# Altium footprint library opto-honeywell.PCBLIB: 39 footprints (part 1 of 3)
Each footprint in its own frame and in the unit in brackets; x right, y up, seen from the top. Pads: shape width x height; smd on the part's side, far side on the other; paste and mask are expansions set on the pad; w line width, h text height; cw(c..) or ccw(c..) is an arc to the next point about the centre after c.
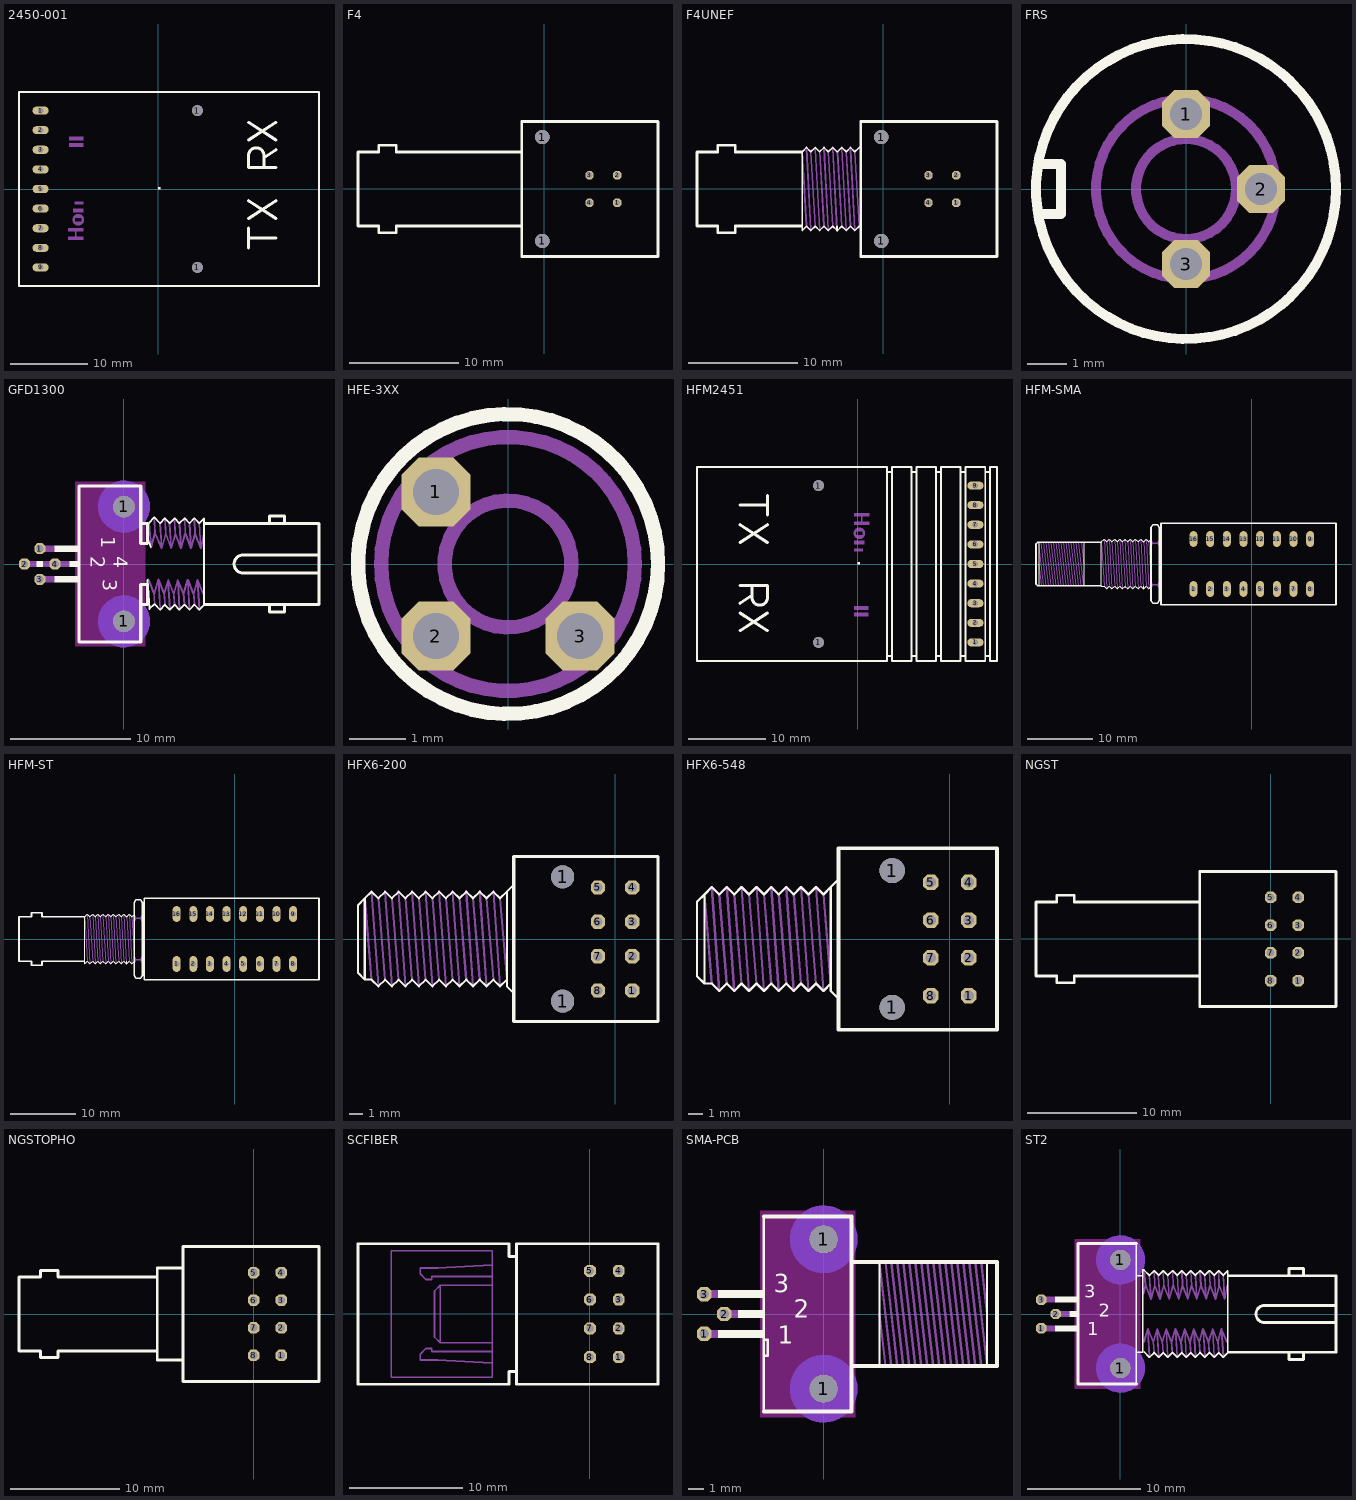
[diagram p0: the footprints below, top view; thin cyan lines are the x and y axes]

## 2450-001 [mil]
pads (11):
  oval 82.68x41.34 hole 27.56: 1(-600,400) 2(-600,300) 3(-600,200) 4(-600,100) 5(-600,0) 6(-600,-100) 7(-600,-200) 8(-600,-300) 9(-600,-400)
  round 56 hole 56: 1(200,-400) 1(200,400)
Top Overlay:
  region: 0,0 10,0 10,10 0,10
  region: 0,0 10,0 10,10 0,10
  lines w10: -710,-495 820,-495 820,495 -710,495 -710,-495
  lines w16: 460,-300 460,-250 ; 460,-200 460,-250 ; 460,-150 600,-60 ; 460,-60 600,-150 ; 460,250 600,340 ; 460,340 600,250 ; 600,-250 460,-250 ; 600,110 540,110 ; 600,200 540,160 ; 540,110 460,110 460,170 cw(c500,170) 540,170 540,160 ; 540,110 540,160
Mechanical 16:
  circle w12: c-407.87,-156.69 r23.62
  rectangle: -459.06,-261.02 -380.31,-241.34
  rectangle: -423.62,-245.28 -415.75,-213.78
  rectangle: -459.06,-217.72 -380.31,-198.03
  rectangle: -425.59,-176.38 -390.16,-166.54
  rectangle: -425.59,-146.85 -390.16,-137.01
  rectangle: -435.43,-119.29 -380.31,-99.61
  rectangle: -427.56,-79.92 -380.31,-64.17
  rectangle: -455.12,215.35 -380.31,235.04
  rectangle: -455.12,246.85 -380.31,266.54
  region: 0,0 10,0 10,10 0,10
  region: 0,0 10,0 10,10 0,10
  region: 0,0 10,0 10,10 0,10
  region: 0,0 10,0 10,10 0,10
  region: 0,0 10,0 10,10 0,10
  region: 0,0 10,0 10,10 0,10
  region: 0,0 10,0 10,10 0,10

## F4 [mil]
pads (6):
  round 52 hole 52: 1(-6,-187.5) 1(-6,187.5)
  oct 30x30 hole 20: 1(264,-50) 2(264,50) 3(164,50) 4(164,-50)
Top Overlay:
  lines w10: -80.91,-133.86 -80.91,-244.09 411.22,-244.09 411.22,244.09 -80.91,244.09 -80.91,133.86 ; -80.91,-133.86 -533.66,-133.86 -533.66,-157.48 -596.65,-157.48 -596.65,-133.86 -671.46,-133.86 -671.46,133.86 -596.65,133.86 -596.65,157.48 -533.66,157.48 -533.66,133.86 -80.91,133.86 ; -80.91,-133.86 -80.91,133.86

## F4UNEF [mil]
pads (6):
  round 52 hole 52: 1(-6,-187.5) 1(-6,187.5)
  oct 30x30 hole 20: 1(264,-50) 2(264,50) 3(164,50) 4(164,-50)
Top Overlay:
  lines w6: -292.09,131.14 -292.09,-149.61 -276.34,-133.86 -260.59,-149.61 -244.8,-133.86 -229.06,-149.61 -213.35,-133.86 -197.6,-149.61 -181.85,-133.86 -166.06,-149.61 -166.06,-133.86 ; -292.09,133.86 -276.34,149.61 -260.59,133.86 -244.8,149.61 -229.06,133.86 -213.35,149.61 -197.6,133.86 -181.85,149.61 -166.06,133.86 ; -164.57,-149.61 -148.82,-133.86 -133.07,-149.61 -117.32,-133.86 -101.57,-149.61 -85.83,-133.86 ; -164.57,133.86 -148.82,149.61 -133.07,133.86 -117.32,149.61 -101.57,133.86 -85.83,149.61
  lines w10: -295,-133.86 -533.66,-133.86 -533.66,-157.48 -596.65,-157.48 -596.65,-133.86 -671.46,-133.86 -671.46,133.86 -596.65,133.86 -596.65,157.48 -533.66,157.48 -533.66,133.86 -295,133.86 ; -80.91,-244.09 411.22,-244.09 411.22,244.09 -80.91,244.09 -80.91,-244.09
Mechanical 16:
  lines w6: -292.09,133.86 -276.34,-133.86 ; -276.34,149.61 -260.59,-149.61 ; -260.59,133.86 -244.8,-133.86 ; -244.8,144.21 -229.06,-149.61 ; -229.06,133.86 -213.35,-133.86 ; -213.35,149.61 -197.6,-149.61 ; -197.6,133.86 -181.85,-133.86 ; -181.85,149.61 -166.06,-149.61 ; -164.57,133.86 -148.82,-133.86 ; -148.82,149.61 -133.07,-149.61 ; -133.07,133.86 -117.32,-133.86 ; -117.32,144.21 -101.57,-149.61 ; -101.57,133.86 -85.83,-133.86

## FRS [mil]
pads (3):
  oct 48x48 hole 32: 1(0,75) 2(75,0) 3(0,-75)
Top Overlay:
  circle w10: c0,0 r150
  lines w10: -145,-25 -125,-25 -125,25 -145,25
Mechanical 16:
  circle w10: c0,0 r50
  circle w10: c0,0 r90

## GFD1300 [mil]
pads (6):
  oct 36x36 hole 24: 1(-275,50) 2(-325,0) 3(-275,-50) 4(-225,0)
  round 70 hole 70: 1(0,-187.5) 1(0,187.5)
Top Layer keep-out:
  rectangle: -160,-270 70,270
Bottom Layer keep-out:
  circle w50: c0,187.5 r60
  circle w50: c0,-187.5 r60
Top Overlay:
  rectangle: -227.5,40 -152.5,60
  rectangle: -177.5,-10 -152.5,10
  rectangle: -227.5,-60 -152.5,-40
  rectangle: -285,-10 -265,10
  lines w6: 77.09,82.6 87.83,54.84 ; 77.5,-67.5 77.5,-51.5 83.5,-146.5 ; 80.83,133.86 99.06,152.13 ; 83.35,-147.13 99.06,-131.38 ; 99.06,152.6 117.83,133.86 ; 100.08,-131.85 117.83,-149.61 ; 118.35,-149.61 134.06,-133.86 149.8,-149.61 165.59,-133.86 181.34,-149.61 197.09,-133.86 ; 118.35,133.86 134.06,149.61 149.8,133.86 165.59,149.61 181.34,133.86 198.07,149.61 ; 198.58,-133.86 214.33,-149.61 230.08,-133.86 ; 198.58,149.61 214.33,133.86 230.08,149.61 ; 230.59,-133.86 246.34,-149.61 262.09,-133.86 ; 230.59,149.61 246.34,133.86 262.09,149.61 262.09,-131.14
  lines w10: 60,-132.5 77.5,-132.5 77.5,-67.5 55,-67.5 55,-255 -147.5,-255 -147.5,255 55,255 55,67.5 77.5,67.5 77.5,132.5 60,132.5 ; 265,-132.5 637.5,-132.5 637.5,-30 ; 265,132.5 637.5,132.5 637.5,30 ; 475,-135 475,-157.5 525,-157.5 525,-135 ; 475,135 475,157.5 525,157.5 525,135 ; 637.5,-30 637.5,30 ; 637.5,-30 390,-30 cw(c390,0) 390,30 637.5,30
  text "1" at -90,90 h77.5
  text "3" at -85,-50 h77.5
  text "2" at -125,25 h77.5
  text "4" at -50,25 h77.5
Mechanical 16:
  rectangle: -280,40 -225,60
  rectangle: -330,-10 -175,10
  rectangle: -280,-60 -225,-40
  lines w6: 80.08,-50.91 98.31,-96.65 ; 82.5,134 88.5,54 ; 88.35,53.86 101.57,101.61 ; 97.5,-92.5 100.5,-131.5 ; 99.06,152.6 102,100 ; 99.33,-96.65 112.56,-50.91 130.83,-96.65 ; 102.09,100.12 122.83,52.36 ; 112.5,-54 118.5,-149 ; 117.5,134 123.5,54 ; 123.35,51.38 136.57,99.09 154.8,51.38 168.07,99.09 186.34,51.38 199.57,99.09 ; 131.34,-97.64 144.57,-51.89 162.83,-97.64 176.06,-51.89 194.33,-97.64 207.56,-51.89 ; 131.5,-96 134.5,-134 ; 134.5,149 136.5,98 ; 144.5,-56 150.5,-148 ; 148.5,133 154.5,53 ; 162.5,-95 165.5,-134 ; 165.5,148 167.5,97 ; 176.5,-55 181.5,-149 ; 181.5,134 186.5,53 ; 194.5,-95 197.5,-134 ; 198.5,149 200.5,97 ; 201.06,99.09 219.33,51.38 232.6,99.09 ; 208.5,-54 214.5,-148 ; 209.09,-51.89 227.32,-97.64 ; 214.5,134 219.5,53 ; 227.83,-97.64 240.08,-51.89 259.33,-97.64 ; 228,-95 231,-134 ; 231,148 232,96 ; 232.09,99.09 251.34,51.38 260.59,99.09 ; 240,-54 247,-149 ; 246,134 251,54
Via Holes:
  rectangle: -160,-270 70,270

## HFE-3XX [mil]
pads (3):
  oct 48x48 hole 32: 1(-50,50) 2(-50,-50) 3(50,-50)
Top Overlay:
  circle w10: c0,0 r104.02
Mechanical 16:
  circle w10: c0,0 r88
  circle w10: c0,0 r44

## HFM2451 [mil]
pads (11):
  round 56 hole 56: 1(-200,-400) 1(-200,400)
  oval 82.68x41.34 hole 27.56: 1(600,-400) 2(600,-300) 3(600,-200) 4(600,-100) 5(600,0) 6(600,100) 7(600,200) 8(600,300) 9(600,400)
Top Overlay:
  region: 0,0 10,0 10,10 0,10
  region: 0,0 10,0 10,10 0,10
  lines w10: 150,-470 150,470 ; 150,-470 150,-495 -820,-495 -820,495 150,495 150,470 ; 150,-470 175,-470 ; 150,470 175,470 ; 175,-470 175,-495 275,-495 275,-470 ; 175,-470 175,470 ; 175,470 175,495 275,495 275,470 ; 275,-470 275,470 ; 275,-470 300,-470 ; 275,470 300,470 ; 300,-470 300,-495 400,-495 400,-470 ; 300,-470 300,470 ; 300,470 300,495 400,495 400,470 ; 400,-470 400,470 ; 400,-470 425,-470 ; 400,470 425,470 ; 425,-470 425,-495 525,-495 525,-470 ; 425,-470 425,470 ; 425,470 425,495 525,495 525,470 ; 525,-470 525,470 ; 525,-470 550,-470 ; 525,470 550,470 ; 550,-470 550,-495 650,-495 650,-470 ; 550,-470 550,470 ; 550,470 550,495 650,495 650,470 ; 650,-470 650,470 ; 650,-470 675,-470 ; 650,470 675,470 ; 675,-470 675,-495 710,-495 710,495 675,495 675,470 ; 675,-470 675,470
  lines w16: -600,-340 -460,-250 ; -600,-250 -460,-340 ; -600,-200 -540,-160 ; -600,-110 -540,-110 ; -600,110 -460,200 ; -600,200 -460,110 ; -600,300 -460,300 ; -460,250 -460,300 ; -460,350 -460,300 ; -540,-160 -540,-170 ccw(c-500,-170) -460,-170 -460,-110 -540,-110 ; -540,-160 -540,-110
Mechanical 16:
  circle w12: c7.87,156.69 r23.63
  rectangle: -19.69,241.34 59.06,261.02
  rectangle: 15.75,213.78 23.62,245.28
  rectangle: -19.69,198.03 59.06,217.72
  rectangle: -9.84,166.54 25.59,176.38
  rectangle: -9.84,137.01 25.59,146.85
  rectangle: -19.69,99.61 35.43,119.29
  rectangle: -19.69,64.17 27.56,79.92
  rectangle: -19.69,-235.04 55.12,-215.35
  rectangle: -19.69,-266.54 55.12,-246.85
  region: 0,0 10,0 10,10 0,10
  region: 0,0 10,0 10,10 0,10
  region: 0,0 10,0 10,10 0,10
  region: 0,0 10,0 10,10 0,10
  region: 0,0 10,0 10,10 0,10
  region: 0,0 10,0 10,10 0,10
  region: 0,0 10,0 10,10 0,10

## HFM-SMA [mil]
pads (16):
  oval 48x96 hole 32: 1(-350,-150) 2(-250,-150) 3(-150,-150) 4(-50,-150) 5(50,-150) 6(150,-150) 7(250,-150) 8(350,-150) 9(350,150) 10(250,150) 11(150,150) 12(50,150) 13(-50,150) 14(-150,150) 15(-250,150) 16(-350,150)
Top Overlay:
  lines w6: -1280,-125 -1280,125 ; -1010,-130 -1010,125 ; -902.09,131.14 -902.09,-134.61 -886.34,-133.86 -870.59,-149.61 -854.8,-133.86 -839.06,-149.61 -823.35,-133.86 ; -902.09,133.86 -886.34,149.61 -870.59,133.86 -854.8,149.61 -839.06,133.86 ; -839.57,133.86 -823.82,149.61 -808.07,133.86 -792.32,149.61 -776.57,133.86 -760.83,149.61 ; -823.82,-133.86 -808.07,-149.61 -792.32,-133.86 -776.57,-149.61 -760.83,-133.86 ; -761.34,-133.86 -745.59,-149.61 -729.8,-133.86 -714.06,-149.61 -698.35,-133.86 -682.6,-149.61 -666.85,-133.86 -651.06,-149.61 -651.06,-133.86 ; -761.34,149.61 -745.59,133.86 -729.8,149.61 -714.06,133.86 -698.35,149.61 -682.6,133.86 -666.85,149.61 -651.06,133.86 ; -649.57,-149.61 -633.82,-133.86 -618.07,-149.61 -602.32,-133.86 ; -649.57,133.86 -633.82,149.61 -618.07,133.86 -602.32,149.61
  lines w10: -905,-130 -1285,-130 -1295,-120 -1295,120 -1285,130 -905,130 ; -605,-220 -595,-235 -565,-235 -555,-220 -555,220 -565,235 -595,235 -605,220 -605,-220 ; -545,-245 505,-245 505,245 -545,245 -545,-245
Mechanical 16:
  lines w6: -1280,0 -1265,-130 ; -1280,130 -1250,-130 ; -1265,130 -1235,-130 ; -1250,130 -1220,-130 ; -1235,130 -1205,-130 ; -1220,130 -1190,-130 ; -1205,130 -1175,-130 ; -1190,130 -1160,-130 ; -1175,130 -1145,-130 ; -1160,130 -1130,-130 ; -1145,130 -1115,-130 ; -1130,130 -1100,-130 ; -1115,130 -1085,-130 ; -1100,130 -1070,-130 ; -1085,130 -1055,-130 ; -1070,130 -1040,-130 ; -1055,130 -1025,-130 ; -1040,130 -1010,-130 ; -1025,130 -1010,0 ; -902.09,133.86 -886.34,-133.86 ; -886.34,149.61 -870.59,-149.61 ; -870.59,133.86 -854.8,-133.86 ; -854.8,144.21 -839.06,-149.61 ; -839.06,133.86 -823.35,-133.86 ; -823.82,149.61 -808.07,-149.61 ; -808.07,133.86 -792.32,-133.86 ; -792.32,144.21 -776.57,-149.61 ; -776.57,133.86 -760.83,-133.86 ; -761.34,149.61 -745.59,-149.61 ; -745.59,133.86 -729.8,-133.86 ; -729.8,144.21 -714.06,-149.61 ; -714.06,133.86 -698.35,-133.86 ; -698.35,149.61 -682.6,-149.61 ; -682.6,133.86 -666.85,-133.86 ; -666.85,149.61 -651.06,-149.61 ; -649.57,133.86 -633.82,-133.86 ; -633.82,149.61 -618.07,-149.61 ; -618.07,133.86 -602.32,-133.86
  lines w10: -605,-140 -595,-125 ; -605,-110 -595,-125 ; -605,110 -595,125 ; -605,140 -595,125 ; -555,-140 -565,-125 ; -555,-110 -565,-125 ; -555,110 -565,125 ; -555,140 -565,125 ; -595,-125 -565,-125 ; -595,125 -565,125

## HFM-ST [mil]
pads (16):
  oval 48x96 hole 32: 1(-350,-150) 2(-250,-150) 3(-150,-150) 4(-50,-150) 5(50,-150) 6(150,-150) 7(250,-150) 8(350,-150) 9(350,150) 10(250,150) 11(150,150) 12(50,150) 13(-50,150) 14(-150,150) 15(-250,150) 16(-350,150)
Top Overlay:
  lines w6: -902.09,131.14 -902.09,-149.61 -886.34,-133.86 -870.59,-149.61 -854.8,-133.86 -839.06,-149.61 -823.35,-133.86 ; -902.09,133.86 -886.34,149.61 -870.59,133.86 -854.8,149.61 -839.06,133.86 ; -839.57,133.86 -823.82,149.61 -808.07,133.86 -792.32,149.61 -776.57,133.86 -760.83,149.61 ; -823.82,-133.86 -808.07,-149.61 -792.32,-133.86 -776.57,-149.61 -760.83,-133.86 ; -761.34,-133.86 -745.59,-149.61 -729.8,-133.86 -714.06,-149.61 -698.35,-133.86 -682.6,-149.61 -666.85,-133.86 -651.06,-149.61 -651.06,-133.86 ; -761.34,149.61 -745.59,133.86 -729.8,149.61 -714.06,133.86 -698.35,149.61 -682.6,133.86 -666.85,149.61 -651.06,133.86 ; -649.57,-149.61 -633.82,-133.86 -618.07,-149.61 -602.32,-133.86 ; -649.57,133.86 -633.82,149.61 -618.07,133.86 -602.32,149.61
  lines w10: -905,-133.86 -1158.66,-133.86 -1158.66,-157.48 -1221.65,-157.48 -1221.65,-133.86 -1296.46,-133.86 -1296.46,133.86 -1221.65,133.86 -1221.65,157.48 -1158.66,157.48 -1158.66,133.86 -905,133.86 ; -605,-220 -595,-235 -565,-235 -555,-220 -555,220 -565,235 -595,235 -605,220 -605,-220 ; -545,-245 505,-245 505,245 -545,245 -545,-245
Mechanical 16:
  lines w6: -902.09,133.86 -886.34,-133.86 ; -886.34,149.61 -870.59,-149.61 ; -870.59,133.86 -854.8,-133.86 ; -854.8,144.21 -839.06,-149.61 ; -839.06,133.86 -823.35,-133.86 ; -823.82,149.61 -808.07,-149.61 ; -808.07,133.86 -792.32,-133.86 ; -792.32,144.21 -776.57,-149.61 ; -776.57,133.86 -760.83,-133.86 ; -761.34,149.61 -745.59,-149.61 ; -745.59,133.86 -729.8,-133.86 ; -729.8,144.21 -714.06,-149.61 ; -714.06,133.86 -698.35,-133.86 ; -698.35,149.61 -682.6,-149.61 ; -682.6,133.86 -666.85,-133.86 ; -666.85,149.61 -651.06,-149.61 ; -649.57,133.86 -633.82,-133.86 ; -633.82,149.61 -618.07,-149.61 ; -618.07,133.86 -602.32,-133.86
  lines w10: -605,-140 -595,-125 ; -605,-110 -595,-125 ; -605,110 -595,125 ; -605,140 -595,125 ; -555,-140 -565,-125 ; -555,-110 -565,-125 ; -555,110 -565,125 ; -555,140 -565,125 ; -595,-125 -565,-125 ; -595,125 -565,125

## HFX6-200 [mil]
pads (10):
  round 66.93 hole 66.93: 1(-152.36,-181.1) 1(-152.36,181.1)
  oct 41.34x41.34 hole 27.56: 1(50,-150) 2(50,-50) 3(50,50) 4(50,150) 5(-50,150) 6(-50,50) 7(-50,-50) 8(-50,-150)
Top Overlay:
  lines w6: -295.28,-157.48 -314.96,-137.8 -314.96,-118.11 ; -295.28,157.48 -314.96,137.8 ; -728.35,-118.11 -708.66,-118.11 -688.98,-137.8 -669.29,-118.11 -649.61,-137.8 -629.92,-118.11 -610.24,-137.8 -590.55,-118.11 -570.87,-137.8 -551.18,-118.11 -531.5,-137.8 -511.81,-118.11 -492.13,-137.8 -472.44,-118.11 -452.76,-137.8 -433.07,-118.11 -413.39,-137.8 -393.7,-118.11 -374.02,-137.8 -354.33,-118.11 -334.65,-137.8 -314.96,-118.11 ; -728.35,-118.11 -748.03,-98.43 -748.03,98.43 -728.35,118.11 ; -728.35,-118.11 -728.35,118.11 ; -728.35,118.11 -708.66,137.8 -688.98,118.11 -669.29,137.8 -649.61,118.11 -629.92,137.8 -610.24,118.11 -590.55,137.8 -570.87,118.11 -551.18,137.8 -531.5,118.11 -511.81,137.8 -492.13,118.11 -472.44,137.8 -452.76,118.11 -433.07,137.8 -413.39,118.11 -393.7,137.8 -374.02,118.11 -354.33,137.8 -334.65,118.11 -314.96,137.8 ; -314.96,-118.11 -314.96,137.8
  lines w10: -295,-240 125,-240 125,240 -295,240 -295,-240
Mechanical 16:
  lines w6: -728.35,118.11 -708.66,-118.11 ; -708.66,137.8 -688.98,-137.8 ; -688.98,118.11 -669.29,-118.11 ; -669.29,137.8 -649.61,-137.8 ; -649.61,118.11 -629.92,-118.11 ; -629.92,137.8 -610.24,-137.8 ; -610.24,118.11 -590.55,-118.11 ; -590.55,137.8 -570.87,-137.8 ; -570.87,118.11 -551.18,-118.11 ; -551.18,137.8 -531.5,-137.8 ; -531.5,118.11 -511.81,-118.11 ; -511.81,137.8 -492.13,-137.8 ; -492.13,118.11 -472.44,-118.11 ; -472.44,137.8 -452.76,-137.8 ; -452.76,118.11 -433.07,-118.11 ; -433.07,137.8 -413.39,-137.8 ; -413.39,118.11 -393.7,-118.11 ; -393.7,137.8 -374.02,-137.8 ; -374.02,118.11 -354.33,-118.11 ; -354.33,137.8 -334.65,-137.8 ; -334.65,118.11 -314.96,-118.11

## HFX6-548 [mil]
pads (10):
  round 66.93 hole 66.93: 1(-152.36,-181.1) 1(-152.36,181.1)
  oct 41.34x41.34 hole 27.56: 1(50,-150) 2(50,-50) 3(50,50) 4(50,150) 5(-50,150) 6(-50,50) 7(-50,-50) 8(-50,-150)
Top Overlay:
  lines w6: -295.28,-157.48 -314.96,-137.8 -314.96,-118.11 ; -295.28,157.48 -314.96,137.8 ; -649.61,-118.11 -629.92,-118.11 -610.24,-137.8 -590.55,-118.11 -570.87,-137.8 -551.18,-118.11 -531.5,-137.8 -511.81,-118.11 -492.13,-137.8 -472.44,-118.11 -452.76,-137.8 -433.07,-118.11 -413.39,-137.8 -393.7,-118.11 -374.02,-137.8 -354.33,-118.11 -334.65,-137.8 -314.96,-118.11 ; -649.61,-118.11 -669.29,-98.43 -669.29,98.43 -649.61,118.11 ; -649.61,-118.11 -649.61,118.11 ; -649.61,118.11 -629.92,137.8 -610.24,118.11 -590.55,137.8 -570.87,118.11 -551.18,137.8 -531.5,118.11 -511.81,137.8 -492.13,118.11 -472.44,137.8 -452.76,118.11 -433.07,137.8 -413.39,118.11 -393.7,137.8 -374.02,118.11 -354.33,137.8 -334.65,118.11 -314.96,137.8 ; -314.96,-118.11 -314.96,137.8
  lines w10: -295,-240 125,-240 125,240 -295,240 -295,-240
Mechanical 16:
  lines w6: -649.61,118.11 -629.92,-118.11 ; -629.92,137.8 -610.24,-137.8 ; -610.24,118.11 -590.55,-118.11 ; -590.55,137.8 -570.87,-137.8 ; -570.87,118.11 -551.18,-118.11 ; -551.18,137.8 -531.5,-137.8 ; -531.5,118.11 -511.81,-118.11 ; -511.81,137.8 -492.13,-137.8 ; -492.13,118.11 -472.44,-118.11 ; -472.44,137.8 -452.76,-137.8 ; -452.76,118.11 -433.07,-118.11 ; -433.07,137.8 -413.39,-137.8 ; -413.39,118.11 -393.7,-118.11 ; -393.7,137.8 -374.02,-137.8 ; -374.02,118.11 -354.33,-118.11 ; -354.33,137.8 -334.65,-137.8 ; -334.65,118.11 -314.96,-118.11

## NGST [mil]
pads (8):
  oct 41.34x41.34 hole 27.56: 1(100,-150) 2(100,-50) 3(100,50) 4(100,150) 5(0,150) 6(0,50) 7(0,-50) 8(0,-150)
Top Overlay:
  lines w10: -255.91,-133.86 -255.91,-244.09 236.22,-244.09 236.22,244.09 -255.91,244.09 -255.91,133.86 ; -255.91,-133.86 -708.66,-133.86 -708.66,-157.48 -771.65,-157.48 -771.65,-133.86 -846.46,-133.86 -846.46,133.86 -771.65,133.86 -771.65,157.48 -708.66,157.48 -708.66,133.86 -255.91,133.86 ; -255.91,-133.86 -255.91,133.86

## NGSTOPHO [mil]
pads (8):
  oct 41.34x41.34 hole 27.56: 1(100,-150) 2(100,-50) 3(100,50) 4(100,150) 5(0,150) 6(0,50) 7(0,-50) 8(0,-150)
Top Overlay:
  lines w10: -349.45,-133.86 -708.66,-133.86 -708.66,-157.48 -771.65,-157.48 -771.65,-133.86 -849.45,-133.86 -849.45,133.86 -771.65,133.86 -771.65,157.48 -708.66,157.48 -708.66,133.86 -349.45,133.86 ; -349.45,-133.86 -349.45,133.86 ; -349.45,-133.86 -349.45,-166.14 -255.91,-166.14 ; -349.45,133.86 -349.45,166.14 -255.91,166.14 ; -255.91,-166.14 -255.91,166.14 ; -255.91,-166.14 -255.91,-244.09 236.22,-244.09 236.22,244.09 -255.91,244.09 -255.91,166.14

## SCFIBER [mil]
pads (8):
  oct 41.34x41.34 hole 27.56: 1(100,-150) 2(100,-50) 3(100,50) 4(100,150) 5(0,150) 6(0,50) 7(0,-50) 8(0,-150)
Top Overlay:
  lines w10: -260,-200 -280.91,-200 -280.91,-244.09 -805.91,-244.09 -805.91,244.09 -280.91,244.09 -280.91,200 -260,200 ; -255.91,-244.09 236.22,-244.09 236.22,244.09 -255.91,244.09 -255.91,-244.09
Mechanical 16:
  lines w6: -520,-100 -520,100 ; -520,-100 -340,-100 ; -520,-100 -540,-80 -540,80 -520,100 ; -520,100 -340,100 ; -340,-170 -340,-130 ; -340,-170 -340,-220 -690,-220 -690,220 -340,220 -340,170 ; -340,-170 -530,-160 -590,-160 -590,-140 -570,-120 -550,-120 -550,-130 -340,-130 ; -340,-130 -340,-100 ; -340,-100 -340,100 ; -340,100 -340,130 ; -340,130 -340,170 ; -340,130 -550,130 -550,120 -570,120 -590,140 -590,160 -530,160 -340,170

## SMA-PCB [mil]
pads (5):
  oct 36x36 hole 24: 1(-300,-50) 2(-250,0) 3(-300,50)
  round 70 hole 70: 1(0,-187.5) 1(0,187.5)
Top Layer keep-out:
  rectangle: -160,-260 80,260
Bottom Layer keep-out:
  circle w50: c0,187.5 r60
  circle w50: c0,-187.5 r60
Top Overlay:
  rectangle: -215,-10 -150,10
  rectangle: -265,-60 -150,-40
  rectangle: -265,40 -150,60
  lines w6: -150,-245 -150,245 ; -145,-105 -140,-105 -140,-65 -145,-65 ; 140,-125 140,130 ; 410,-125 410,125
  lines w10: -150,-245 70,-245 70,245 -150,245 ; 70,-130 435,-130 435,130 70,130
  text "1" at -115,-90 h77.5
  text "2" at -75,-25 h77.5
  text "3" at -125,40 h77.5
Mechanical 16:
  rectangle: -305,40 -260,60
  rectangle: -255,-10 -210,10
  rectangle: -305,-60 -260,-40
  lines w6: 140,0 155,-130 ; 140,130 170,-130 ; 155,130 185,-130 ; 170,130 200,-130 ; 185,130 215,-130 ; 200,130 230,-130 ; 215,130 245,-130 ; 230,130 260,-130 ; 245,130 275,-130 ; 260,130 290,-130 ; 275,130 305,-130 ; 290,130 320,-130 ; 305,130 335,-130 ; 320,130 350,-130 ; 335,130 365,-130 ; 350,130 380,-130 ; 365,130 395,-130 ; 380,130 410,-130 ; 395,130 410,0
Via Holes:
  rectangle: -160,-260 80,260

## ST2 [mil]
pads (5):
  oct 36x36 hole 24: 1(-275,-50) 2(-225,0) 3(-275,50)
  round 70 hole 70: 1(0,-187.5) 1(0,187.5)
Top Layer keep-out:
  rectangle: -160,-260 70,260
Bottom Layer keep-out:
  circle w50: c0,187.5 r60
  circle w50: c0,-187.5 r60
Top Overlay:
  rectangle: -227.5,40 -152.5,60
  rectangle: -177.5,-10 -152.5,10
  rectangle: -227.5,-60 -152.5,-40
  lines w6: 55,-242.5 55,245 ; 60,-132.5 77.5,-132.5 77.5,132.5 ; 60,132.5 77.5,132.5 ; 81.57,152.6 100.32,133.86 ; 82.5,152.5 77.5,152.5 77.5,132.5 ; 82.56,-131.85 100.32,-149.61 ; 100.83,-149.61 116.57,-133.86 132.32,-149.61 148.07,-133.86 163.82,-149.61 179.57,-133.86 ; 100.83,133.86 116.57,149.61 132.32,133.86 148.07,149.61 163.82,133.86 180.59,149.61 ; 181.06,-133.86 196.85,-149.61 212.6,-133.86 228.35,-149.61 244.06,-133.86 259.8,-149.61 275.59,-133.86 ; 181.06,149.61 196.85,133.86 212.6,149.61 228.35,133.86 244.06,149.61 259.8,133.86 275.59,149.61 ; 276.57,-133.86 292.32,-149.61 308.07,-133.86 ; 276.57,149.61 292.32,133.86 308.07,149.61 ; 309.06,-133.86 324.8,-149.61 340.59,-133.86 356.34,-149.61 372.09,-133.86 ; 309.06,149.61 324.8,133.86 340.59,149.61 356.34,133.86 372.09,149.61 372.09,-131.14
  lines w10: 55,-242.5 -147.5,-242.5 -147.5,245 55,245 ; 375,-132.5 747.5,-132.5 747.5,-30 ; 375,132.5 747.5,132.5 747.5,30 ; 585,-135 585,-157.5 635,-157.5 635,-135 ; 585,135 585,157.5 635,157.5 635,135 ; 747.5,-30 747.5,30 ; 747.5,-30 500,-30 cw(c500,0) 500,30 747.5,30
  text "1" at -115,-90 h77.5
  text "3" at -125,40 h77.5
  text "2" at -75,-25 h77.5
Mechanical 16:
  rectangle: -272.5,40 -227.5,60
  rectangle: -222.5,-10 -177.5,10
  rectangle: -272.5,-60 -227.5,-40
  lines w6: 80,70 87,100 81.57,152.6 ; 81.85,-96.65 95.08,-50.91 113.31,-96.65 ; 87.09,100.12 105.32,52.36 ; 95,-54 101,-149 ; 100,134 106,54 ; 105.83,51.38 119.06,99.09 137.32,51.38 150.59,99.09 168.82,51.38 182.09,99.09 ; 113.82,-97.64 127.09,-51.89 145.32,-97.64 158.58,-51.89 176.81,-97.64 190.08,-51.89 ; 114,-96 117,-134 ; 117,149 119,98 ; 127,-56 133,-148 ; 131,133 137,53 ; 145,-95 148,-134 ; 148,148 150,97 ; 159,-55 164,-149 ; 164,134 169,53 ; 177,-95 180,-134 ; 181,149 183,97 ; 183.58,99.09 201.85,51.38 215.08,99.09 233.35,51.38 246.57,99.09 264.8,51.38 278.07,99.09 ; 191,-54 197,-148 ; 191.57,-51.89 209.84,-97.64 223.07,-51.89 241.34,-97.64 254.57,-51.89 272.83,-97.64 286.06,-51.89 ; 197,134 202,53 ; 210,-96 213,-134 ; 213,148 215,96 ; 223,-55 228,-149 ; 228,134 233,55 ; 241,-94 244,-134 ; 244,149 247,97 ; 255,-57 260,-148 ; 260,134 265,54 ; 273,-95 276,-134 ; 276,149 279,97 ; 279.06,99.09 297.32,51.38 310.59,99.09 ; 287,-54 293,-148 ; 287.09,-51.89 305.32,-97.64 319.57,-51.89 337.83,-97.64 350.08,-51.89 369.33,-97.64 ; 292,134 297,55 ; 305,-94 308,-134 ; 308,149 311,97 ; 311.57,99.09 329.8,51.38 342.09,99.09 361.34,51.38 370.59,99.09 ; 320,-56 325,-148 ; 325,134 330,54 ; 338,-95 341,-134 ; 341,148 342,96 ; 350,-54 357,-149 ; 356,134 361,54
Via Holes:
  rectangle: -160,-260 70,260